# Altium schematic symbol library BJT-NPN-B1C3E2.Schlib: 1 symbol
Pins are listed as number, name and electrical type; pins without a type are passive.

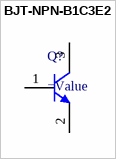
[diagram p0: symbol BJT-NPN-B1C3E2]

## BJT-NPN-B1C3E2
designator Q?
BJT NPN transistor B=1, C=3, E=2
pins: 1 B, 2 E, 3 C